# Altium schematic symbol library Transistors.SchLib: 4 symbols
Pins are listed as number, name and electrical type; pins without a type are passive.

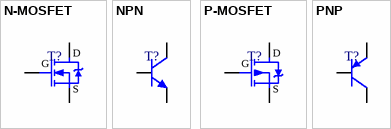
[diagram p0: symbols N-MOSFET to PNP]

## N-MOSFET
designator T?  (value not drawn)
Unipolar transistor N-MOSFET; Value: *
footprint SOT23 (SOT23, 3-Leads, Body 2.90x2.40mm, Pitch 0.95mm, IPC Medium Density)
pins: 1 G, 2 S, 3 D
1 alternate drawing of the same symbol

## NPN
designator T?  (value not drawn)
Bipolar transistor NPN; Value: *
footprint SOT323, 3-Lead
pins: 1 B, 2 E, 3 C

## P-MOSFET
designator T?  (value not drawn)
Unipolar transistor P-MOSFET; Value: *
footprint SOT23 (SOT23, 3-Leads, Body 2.90x2.40mm, Pitch 0.95mm, IPC Medium Density)
pins: 1 G, 2 D, 3 S
1 alternate drawing of the same symbol

## PNP
designator T?  (value not drawn)
Bipolar transistor PNP; Value: *
pins: 1 B, 2 E, 3 C